# Altium footprint library PcbLib1.PcbLib: 18 footprints (part 1 of 2)
Each footprint in its own frame and in the unit in brackets; x right, y up, seen from the top. Pads: shape width x height; smd on the part's side, far side on the other; paste and mask are expansions set on the pad; w line width, h text height; cw(c..) or ccw(c..) is an arc to the next point about the centre after c.
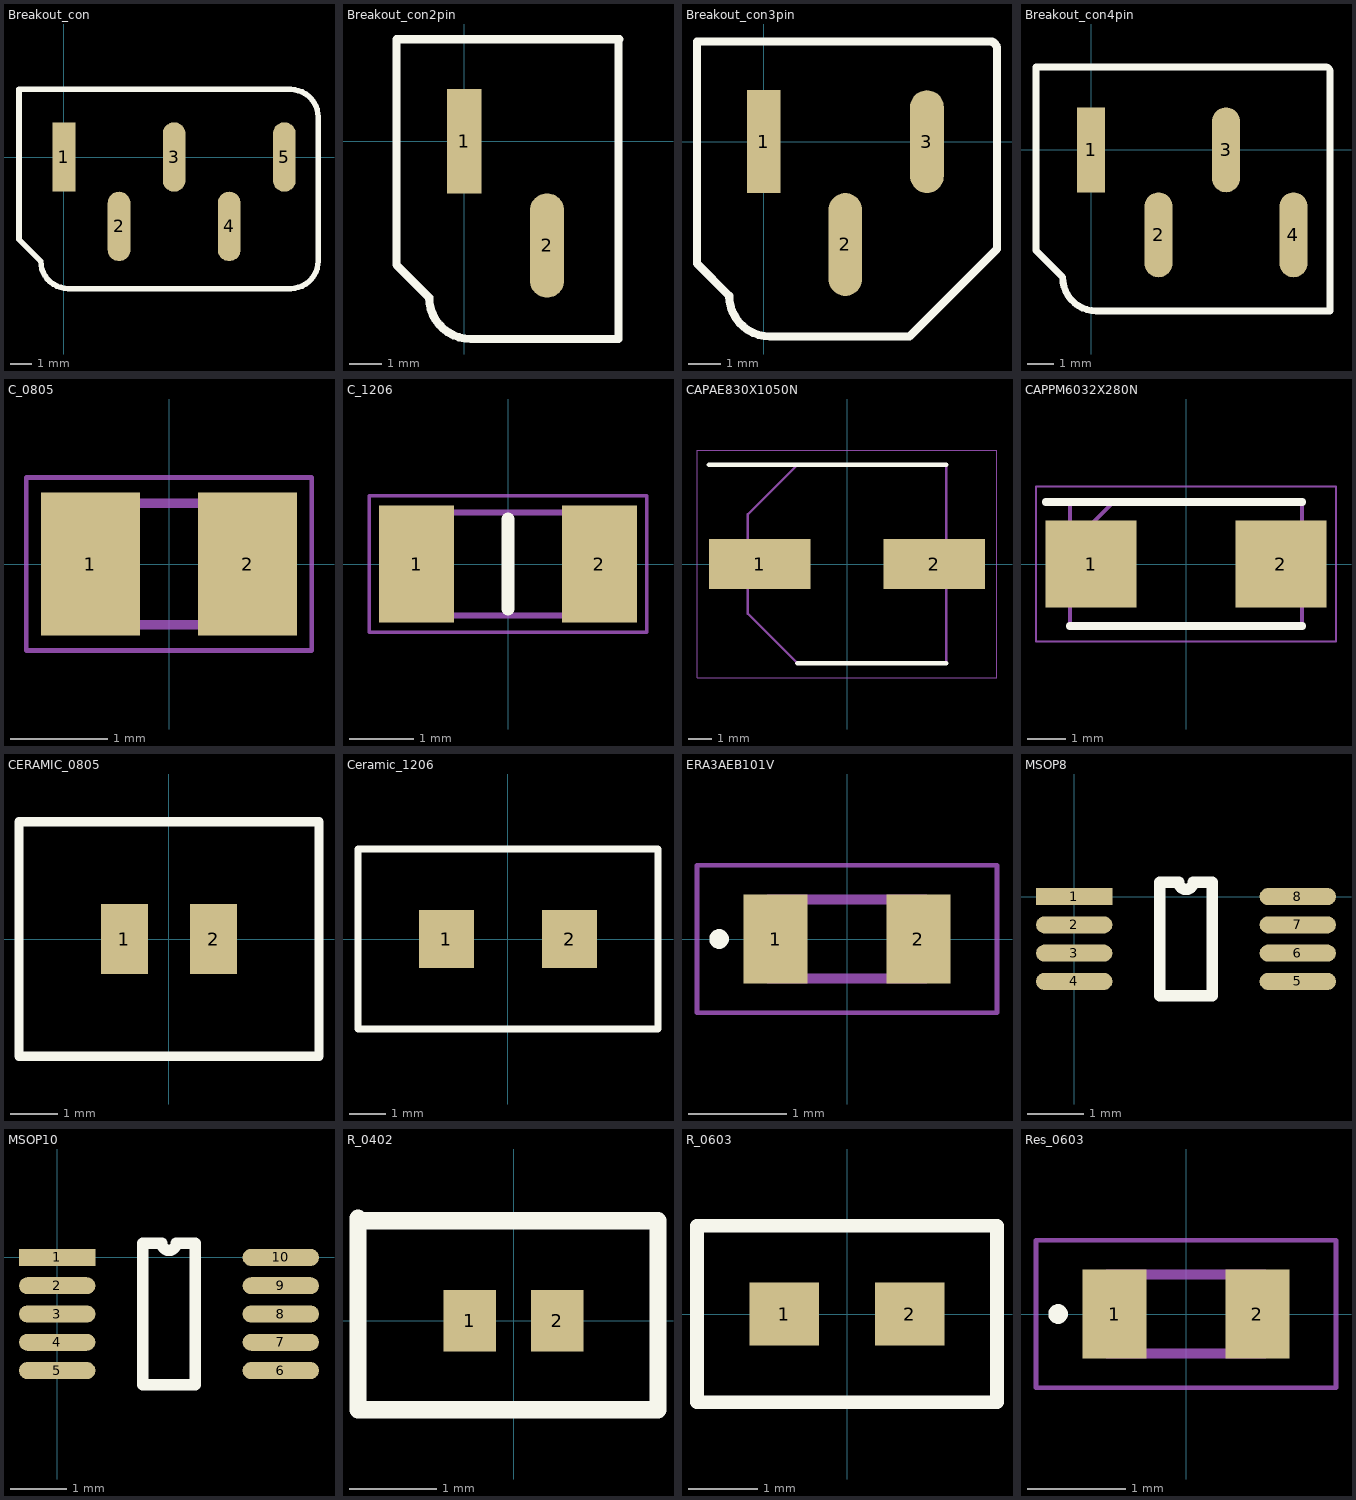
[diagram p0: the footprints below, top view; thin cyan lines are the x and y axes]

## Breakout_con [mm]
pads (5):
  rect 1.05x3.2 smd: 1(0,0)
  oval 1.05x3.2 smd: 2(2.54,-3.2) 3(5.08,0) 4(7.62,-3.2) 5(10.16,0)
Top Overlay:
  lines w0.254: -2.074,-3.792 -1.072,-4.794 ccw(c0.198,-4.794) 0.198,-6.064 10.451,-6.064 ccw(c10.451,-4.794) 11.721,-4.794 11.721,1.847 ccw(c10.451,1.847) 10.451,3.117 -2.074,3.117 -2.074,-3.792

## Breakout_con2pin [mm]
pads (2):
  rect 1.05x3.2 smd: 1(0,0)
  oval 1.05x3.2 smd: 2(2.54,-3.2)
Top Overlay:
  lines w0.254: 4.727,3.126 4.727,0.363 4.727,-6.064 0.198,-6.064 cw(c0.198,-4.794) -1.072,-4.794 -2.074,-3.792 -2.074,3.117 0.204,3.117 4.76,3.117

## Breakout_con3pin [mm]
pads (3):
  rect 1.05x3.2 smd: 1(0,0)
  oval 1.05x3.2 smd: 2(2.54,-3.2) 3(5.08,0)
Top Overlay:
  lines w0.254: -2.074,-3.792 -1.072,-4.794 ccw(c0.198,-4.794) 0.198,-6.064 4.534,-6.064 7.259,-3.34 7.259,2.895 ccw(c7.038,2.895) 7.038,3.117 4.76,3.117 0.204,3.117 -2.074,3.117 -2.074,-3.792

## Breakout_con4pin [mm]
pads (4):
  rect 1.05x3.2 smd: 1(0,0)
  oval 1.05x3.2 smd: 2(2.54,-3.2) 3(5.08,0) 4(7.62,-3.2)
Top Overlay:
  lines w0.254: -2.074,-3.792 -1.072,-4.794 ccw(c0.198,-4.794) 0.198,-6.064 8.997,-6.064 8.997,-3.808 8.997,0.705 8.997,2.962 ccw(c8.842,2.962) 8.842,3.117 -2.074,3.117 -2.074,-3.792

## C_0805 [mm] "CAPC2012X140N Ceramic 0805"
pads (2):
  rect 1.02x1.47 smd: 1(-0.81,0) 2(0.81,0)
Mechanical 15:
  lines w0.1: -1.005,-0.625 1.005,-0.625 1.005,0.625 -1.005,0.625 -1.005,-0.625
Mechanical 20:
  lines w0.05: -1.47,-0.89 1.47,-0.89 1.47,0.89 -1.47,0.89 -1.47,-0.89

## C_1206 [mm] "CAPC3316X180N AVE 1206"
pads (2):
  rect 1.17x1.82 smd: 1(-1.42,0) 2(1.42,0)
Top Overlay:
  lines w0.2: 0,-0.7 0,0.7
Mechanical 15:
  lines w0.1: -1.65,-0.8 -1.65,0.8 1.65,0.8 1.65,-0.8 -1.65,-0.8
Mechanical 20:
  lines w0.05: -2.155,-1.06 -2.155,1.06 2.155,1.06 2.155,-1.06 -2.155,-1.06

## CAPAE830X1050N [mm] "tantalum"
pads (2):
  rect 4.25x2.1 smd: 1(-3.65,0) 2(3.65,0)
Top Overlay:
  lines w0.2: -5.775,4.15 4.15,4.15 ; -2.075,-4.15 4.15,-4.15
Mechanical 15:
  lines w0.1: -4.15,-2.075 -2.075,-4.15 4.15,-4.15 4.15,4.15 -2.075,4.15 -4.15,2.075 -4.15,-2.075
Mechanical 20:
  lines w0.05: -6.275,-4.75 -6.275,4.75 6.275,4.75 6.275,-4.75 -6.275,-4.75

## CAPPM6032X280N [mm] "10 uF tantalum"
pads (2):
  rect 2.35x2.25 smd: 1(-2.45,0) 2(2.45,0)
Top Overlay:
  lines w0.2: -3.625,1.6 3,1.6 ; -3,-1.6 3,-1.6
Mechanical 15:
  lines w0.1: -3,0.475 -1.875,1.6 ; -3,-1.6 3,-1.6 3,1.6 -3,1.6 -3,-1.6
Mechanical 20:
  lines w0.05: -3.875,-2 3.875,-2 3.875,2 -3.875,2 -3.875,-2

## CERAMIC_0805 [mm]
pads (2):
  rect 1x1.5 smd: 1(-0.95,0) 2(0.95,0)
Top Overlay:
  lines w0.2: -3.2,-2.5 3.2,-2.5 3.2,2.5 -3.2,2.5 -3.2,0 -3.2,-2.5

## Ceramic_1206 [mm]
pads (2):
  rect 1.52x1.6 smd: 1(-1.71,0) 2(1.71,0)
Top Overlay:
  lines w0.2: -4.17,-2.5 -4.17,0 -4.17,2.5 4.17,2.5 4.17,-2.5 -4.17,-2.5

## ERA3AEB101V [mm]
pads (2):
  rect 0.65x0.9 smd: 1(-0.725,0) 2(0.725,0)
Top Overlay:
  lines w0.1: -1.3,-0.05 ccw(c-1.3,0) -1.3,0.05 ccw(c-1.3,0) -1.3,-0.05
Mechanical 15:
  lines w0.1: -0.8,-0.4 -0.8,0.4 0.8,0.4 0.8,-0.4 -0.8,-0.4
Mechanical 20:
  lines w0.05: -1.525,-0.75 -1.525,0.75 1.525,0.75 1.525,-0.75 -1.525,-0.75

## MSOP8 [mm]
pads (8):
  rect 1.35x0.3 smd: 1(0,0)
  oval 1.35x0.3 smd: 2(0,-0.5) 3(0,-1) 4(0,-1.5) 5(3.95,-1.5) 6(3.95,-1) 7(3.95,-0.5) 8(3.95,0)
Top Overlay:
  lines w0.2: 1.51,-1.75 2.44,-1.75 2.44,0.25 2.1,0.25 cw(c1.975,0.25) 1.85,0.25 1.51,0.25 1.51,-1.75

## MSOP10 [mm]
pads (10):
  rect 1.35x0.3 smd: 1(0,0)
  oval 1.35x0.3 smd: 2(0,-0.5) 3(0,-1) 4(0,-1.5) 5(0,-2) 6(3.95,-2) 7(3.95,-1.5) 8(3.95,-1) 9(3.95,-0.5) 10(3.95,0)
Top Overlay:
  lines w0.2: 1.51,-2.25 2.44,-2.25 2.44,0.25 2.1,0.25 cw(c1.975,0.25) 1.85,0.25 1.51,0.25 1.51,-2.25

## R_0402 [mm]
pads (2):
  rect 0.6x0.7 smd: 1(-0.5,0) 2(0.5,0)
Top Overlay:
  lines w0.2: -1.778,-1.016 1.651,-1.016 1.651,1.143 -1.778,1.143 -1.778,1.172 -1.778,-1.016

## R_0603 [mm]
pads (2):
  rect 1x0.9 smd: 1(-0.9,0) 2(0.9,0)
Top Overlay:
  lines w0.2: -2.159,-1.27 2.159,-1.27 2.159,1.27 -2.159,1.27 -2.159,-1.27

## Res_0603 [mm] "ERA3AEB101V Panasonic 0603"
pads (2):
  rect 0.65x0.9 smd: 1(-0.725,0) 2(0.725,0)
Top Overlay:
  lines w0.1: -1.3,-0.05 cw(c-1.3,0) -1.3,0.05 cw(c-1.3,0) -1.3,-0.05
Mechanical 15:
  lines w0.1: -0.8,-0.4 0.8,-0.4 0.8,0.4 -0.8,0.4 -0.8,-0.4
Mechanical 20:
  lines w0.05: -1.525,-0.75 1.525,-0.75 1.525,0.75 -1.525,0.75 -1.525,-0.75